# Altium footprint library 采集主板V1.1_ZM_20210713.PcbLib: 37 footprints (part 2 of 3)
Each footprint in its own frame and in the unit in brackets; x right, y up, seen from the top. Pads: shape width x height; smd on the part's side, far side on the other; paste and mask are expansions set on the pad; w line width, h text height; cw(c..) or ccw(c..) is an arc to the next point about the centre after c.
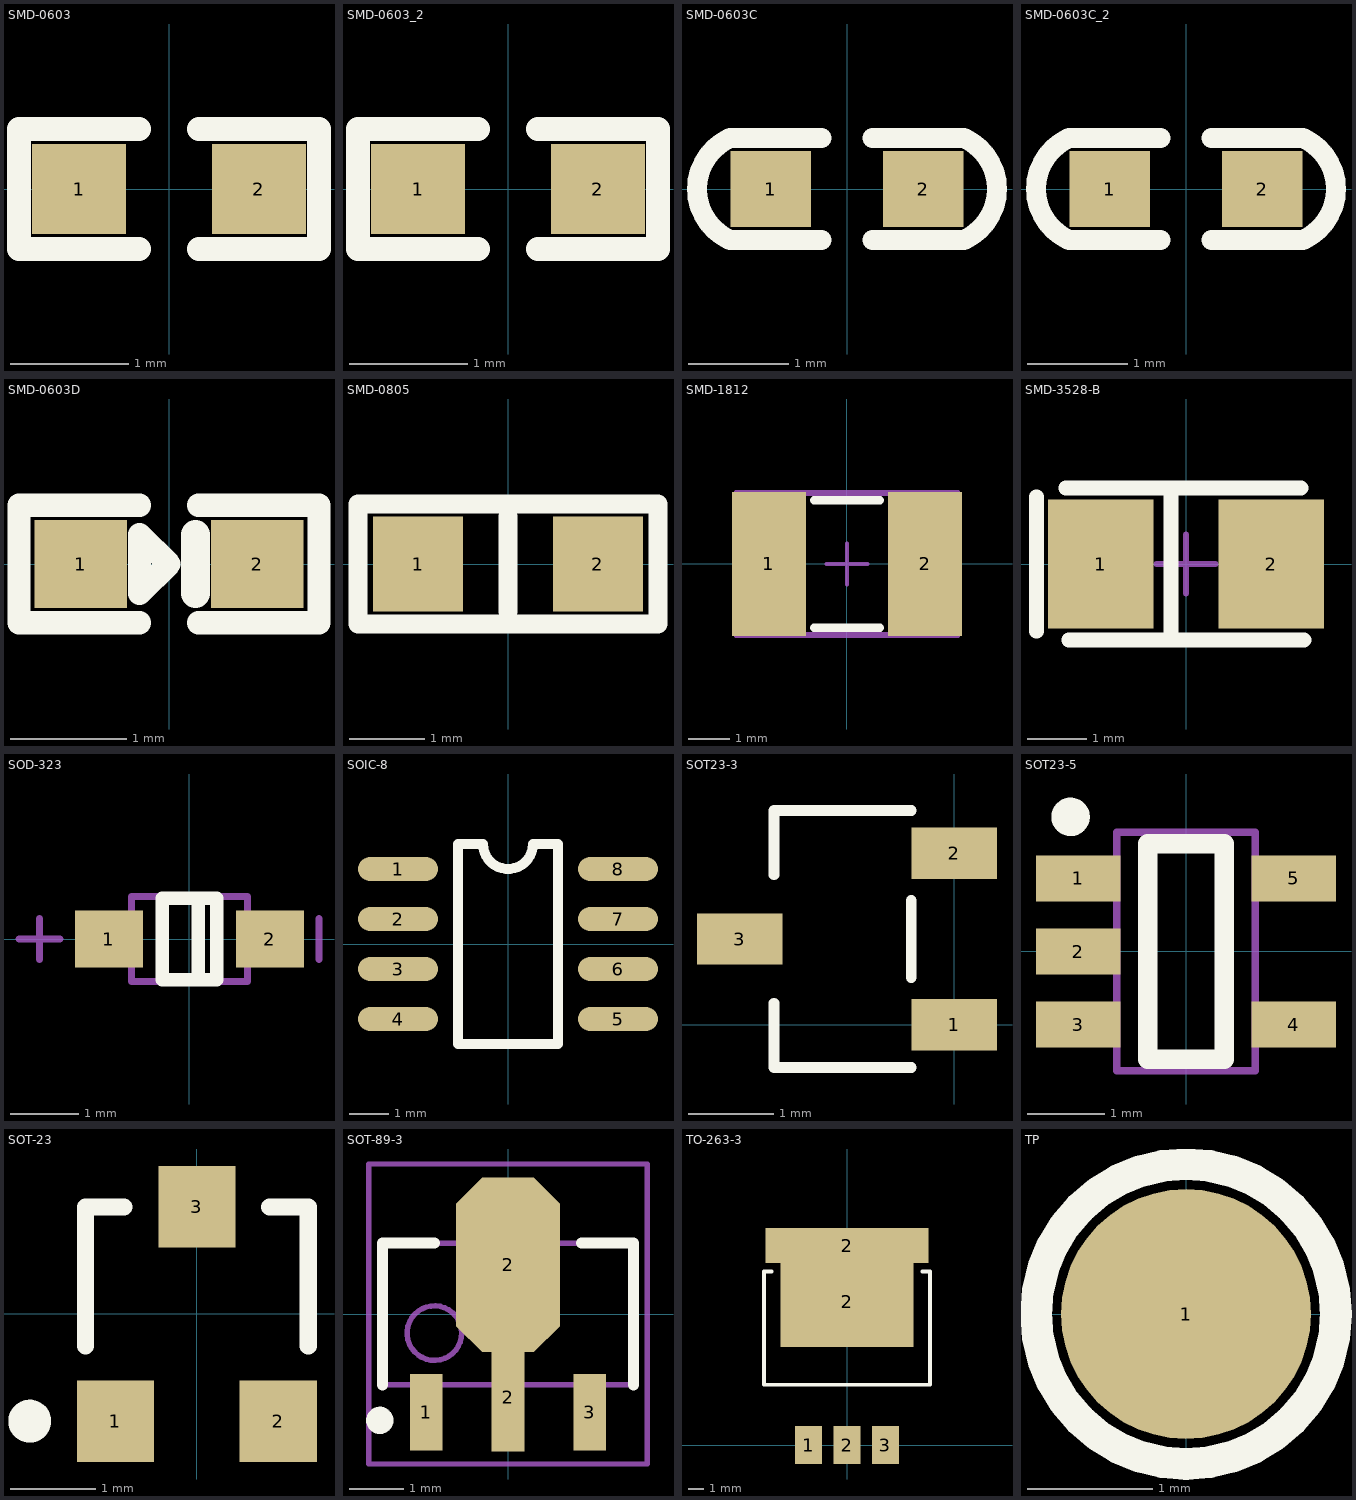
[diagram p1: the footprints below, top view; thin cyan lines are the x and y axes]

## SMD-0603 [mil] "W1/32贴片电阻"
height 39.37
pads (2):
  rect 31.5x30 smd: 1(-30,0) 2(30,0)
Top Overlay:
  lines w7.87: -10,-20 -50,-20 -50,20 -10,20 ; 10,-20 50,-20 50,20 10,20
3D body "R0603.STEP": height 17.72, standoff 0, extent -31.49,-15.74 31.5,15.76

## SMD-0603_2 [mil]
pads (2):
  rect 31.5x30 smd: 1(-30,0) 2(30,0)
Top Overlay:
  lines w7.87: -10,-20 -50,-20 -50,20 -10,20 ; 10,-20 50,-20 50,20 10,20
3D body "R0603.STEP": height 17.72, standoff 0, extent -31.49,-15.74 31.5,15.76

## SMD-0603C [mil]
pads (2):
  rect 31.5x30 smd: 1(-30,0) 2(30,0)
Top Overlay:
  lines w7.87: -46.3,-19.94 cw(c-37,0) -46.3,19.94 ; -46,-20 -10,-20 ; -46,20 -10,20 ; 10,-20 46,-20 ; 10,20 46,20 ; 46.3,-19.94 ccw(c37,0) 46.3,19.94
3D body "CAPC1608(0603).STEP": height -15.75, standoff -39.37, extent -31.49,-15.74 31.5,15.75

## SMD-0603C_2 [mil]
pads (2):
  rect 31.5x30 smd: 1(-30,0) 2(30,0)
Top Overlay:
  lines w7.87: -46.3,-19.94 cw(c-37,0) -46.3,19.94 ; -46,-20 -10,-20 ; -46,20 -10,20 ; 10,-20 46,-20 ; 10,20 46,20 ; 46.3,-19.94 ccw(c37,0) 46.3,19.94
3D body "CAPC1608(0603).STEP": height -15.75, standoff -39.37, extent -31.49,-15.74 31.5,15.75

## SMD-0603D [mil] "贴片二极管"
height 39.37
pads (2):
  rect 31.5x30 smd: 1(-30,0) 2(30,0)
Top Overlay:
  lines w7.87: -51,-20 -51,20 ; -50,-20 -10,-20 ; -50,20 -10,20 ; 10,-20 50,-20 ; 10,20 50,20 ; 51,-20 51,20 ; -10,-10 -10,10 0,0 -10,-10
  lines w10: 9,-10 9,10
3D body: height 25.59, standoff 0, extent -31.49,-15.74 31.51,15.75

## SMD-0805 [mm] "贴片电阻"
height 2
pads (2):
  rect 1.2x1.27 smd: 1(-1.2,0) 2(1.2,0)
Top Overlay:
  lines w0.254: 0,-0.635 0,0.635 ; -2,-0.8 -2,0.8 2,0.8 2,-0.8 -2,-0.8
3D body: height 0.55, standoff 0, extent -1,-0.63 1,0.63

## SMD-1812 [mm] "贴片电阻"
height 3
pads (2):
  rect 1.8x3.5 smd: 1(-1.9,0) 2(1.9,0)
Top Overlay:
  lines w0.2: -0.8,-1.55 0.8,-1.55 ; -0.8,1.55 0.8,1.55
Mechanical 13:
  lines w0.1: -2.4,-1.7 -2.4,1.7 2.4,1.7 2.4,-1.7 -2.4,-1.7
Mechanical 15:
  lines w0.1: -0.5,0 0.5,0 ; 0,-0.5 0,0.5 ; -2.7,-1.75 -2.7,1.75 2.7,1.75 2.7,-1.75 -2.7,-1.75
3D body: height 1.4, standoff 0, extent -2.4,-1.7 2.4,1.7

## SMD-3528-B [mm] "Molded Capacitor, 2-Leads, Body 3.5x2.2mm, IPC Medium Density"
height 1.9
pads (2):
  rect 1.8x2.2 smd: 1(-1.45,0) 2(1.45,0)
Top Overlay:
  lines w0.254: -2.54,-1.143 -2.54,1.143 ; -2.044,1.295 1.956,1.295 ; -1.993,-1.295 2.007,-1.295 ; -0.254,-1.27 -0.254,1.27
Mechanical 15:
  lines w0.1: -0.5,0 0.5,0 ; 0,-0.5 0,0.5
3D body: height 2.03, standoff 0, extent -1.85,-1.465 1.85,1.465

## SOD-323 [mm] "贴片二极管"
height 2
pads (2):
  rect 1x0.83 smd: 1(-1.18,0) 2(1.18,0)
Top Overlay:
  lines w0.2: 0.13,-0.6 0.13,0.6 ; -0.4,-0.6 0.4,-0.6 0.4,0.6 -0.4,0.6 -0.4,-0.6
Mechanical 13:
  lines w0.1: -0.85,-0.625 0.85,-0.625 0.85,0.625 -0.85,0.625 -0.85,-0.625
Mechanical 15:
  lines w0.1: -2.5,0 -1.9,0 ; -2.2,-0.3 -2.2,0.3 ; 1.9,-0.3 1.9,0.3
3D body: height 0.75, standoff -0.01, extent -1.4,-0.675 1.4,0.675

## SOIC-8 [mil] "中体积贴片"
height 78.74
pads (8):
  oval 80x24 smd: 1(-110,75) 2(-110,25) 3(-110,-25) 4(-110,-75) 5(110,-75) 6(110,-25) 7(110,25) 8(110,75)
Top Overlay:
  lines w10: -50,-100 -50,100 -25,100 ccw(c0,100) 25,100 50,100 50,-100 -50,-100
3D body: height 62.99, standoff 0, extent -118.94,-99.02 118.93,98.62

## SOT23-3 [mm]
pads (3):
  rect 1x0.6 smd: 1(0,0) 2(0,2) 3(-2.5,1)
Top Overlay:
  lines w0.127: -2.1,0.25 -2.1,-0.5 -0.5,-0.5 ; -2.1,1.75 -2.1,2.5 -0.5,2.5 ; -0.5,0.55 -0.5,1.45

## SOT23-5 [mm] "SOT23, 5-Leads, Body 3.1x2.6mm (max), Pitch 0.95mm, IPC Medium Density"
height 1.1
pads (5):
  rect 1.1x0.6 smd: 1(-1.4,0.95) 2(-1.4,0) 3(-1.4,-0.95) 4(1.4,-0.95) 5(1.4,0.95)
Top Overlay:
  circle w0.25: c-1.5,1.75 r0.125
  lines w0.254: -0.5,-1.4 0.5,-1.4 0.5,1.4 -0.5,1.4 -0.5,-1.4
Mechanical 13:
  lines w0.1: -0.9,-1.55 -0.9,1.55 0.9,1.55 0.9,-1.55 -0.9,-1.55
3D body: height 1.1, standoff 0, extent -1.25,-1.5 1.25,1.5

## SOT-23 [mm] "SOT-23; 3 Leads; Body 3.0 x 2.6 mm, inc. leads (LxW max)"
height 1.1
pads (3):
  rect 0.9x0.95 smd: 1(-0.95,-1.25) 2(0.95,-1.25) 3(0,1.25)
Top Overlay:
  circle w0.25: c-1.95,-1.25 r0.125
  lines w0.2: -1.3,-0.375 -1.3,1.25 -0.85,1.25 ; 0.85,1.25 1.3,1.25 1.3,-0.375

## SOT-89-3 [mm] "三极管或MOS"
height 4
pads (4):
  rect 0.6x1.4 smd: 1(-1.5,-1.8) 3(1.5,-1.8)
  rect 0.6x2 smd: 2(0,-1.524)
  oct 1.9x3.2 smd: 2(0,0.9)
Top Overlay:
  circle w0.25: c-2.35,-1.95 r0.125
  lines w0.2: -2.3,-1.3 -2.3,1.3 -1.35,1.3 ; 1.35,1.3 2.3,1.3 2.3,-1.3
Mechanical 13:
  circle w0.1: c-1.35,-0.35 r0.5
  lines w0.1: -2.3,-1.3 -2.3,1.3 2.3,1.3 2.3,-1.3 -2.3,-1.3
Mechanical 15:
  lines w0.1: -0.5,0 0.5,0 ; 0,-0.5 0,0.5 ; -2.55,-2.75 -2.55,2.75 2.55,2.75 2.55,-2.75 -2.55,-2.75
3D body "SOT-89-1.STEP": height 1.51, standoff 0, extent -2.25,-2.1 2.25,2.2

## TO-263-3 [mm]
height 5
pads (5):
  rect 1.8x2.5 smd: 1(-2.54,0) 2(0,0) 3(2.54,0)
  rect 8.8x6 smd: 2(0,9.5)
  rect 10.8x2.3 smd: 2(0,13.208)
Top Overlay:
  lines w0.254: -5,11.5 -5.5,11.5 -5.5,4 5.5,4 5.5,11.5 5,11.5

## TP [mm] "Test Point"
height 0.5
pads (1):
  round 2 smd: 1(0,0)
Top Overlay:
  circle w0.254: c0,0 r1.2